# Altium schematic symbol library Passives.SchLib: 4 symbols
Pins are listed as number, name and electrical type; pins without a type are passive.

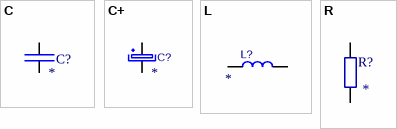
[diagram p0: symbols C to R]

## C
designator C?
Capacitor - generic SMD; Value: *
footprint FPR_0402_C_R0 (SMD Reflow)
footprint FPR_0603_C_R0 (SMD Reflow)
footprint FPR_0805_C_R0 (SMD Reflow)
footprint FPR_1210_C_R0 (SMD Reflow)
pins: 1, 2

## C+
designator C?
Capacitor polarized - generic SMD; Value: *
footprint C Tantal A (Molded Capacitor, 2-Leads, Body 3,2x1,6mm, IPC Medium Density)
footprint C Tantal B (Molded Capacitor, 2-Leads, Body 3,5x2,8mm, IPC Medium Density)
footprint C Tantal C (Molded Capacitor, 2-Leads, Body 6,0x3,2mm, IPC Medium Density)
footprint C Tantal D (Molded Capacitor, 2-Leads, Body 7,3x4,3mm, IPC Medium Density)
footprint C-SMD-ELKO-B (Aluminum Electrolytic Capacitor, Body 4.20x4.20x6.10mm, IPC Medium Density)
footprint C-SMD-ELKO-C (Aluminum Electrolytic Capacitor, Body 5.30x5.30x6.10mm, IPC Medium Density)
footprint C-SMD-ELKO-D (Aluminum Electrolytic Capacitor, Body 6.60x6.60x6.10mm, IPC Medium Density)
footprint C-SMD-ELKO-F (Aluminum Electrolytic Capacitor, Body 8.30x8.30x10.50mm, IPC Medium Density)
footprint C-SMD-ELKO-G (Aluminum Electrolytic Capacitor, Body 10.30x10.30x10.50mm, IPC Medium Density)
footprint C Tantal B (Molded Capacitor, 2-Leads, Body 3,5x2,8mm, IPC Medium Density)
footprint C Tantal B (Molded Capacitor, 2-Leads, Body 3,5x2,8mm, IPC Medium Density)
pins: 1, 2

## L
designator L?
Inductor - generic SMD; Value: *
pins: 1, 2

## R
designator R?
Resistor - generic SMD; Value: *
footprint FPR_0402_R_R0 (SMD Reflow)
footprint FPR_0603_R_R0 (SMD Reflow)
footprint FPR_0805_R_R0 (SMD Reflow)
footprint FPR_1216_R_R0 (SMD Reflow)
footprint FPR_1206_R_R0 (SMD Reflow)
footprint FPR_CRF2512_R0 (CRF2512 2W)
pins: 1, 2